# EAGLE library part ATSAM3U4EA (library GadgetFactory_v1)
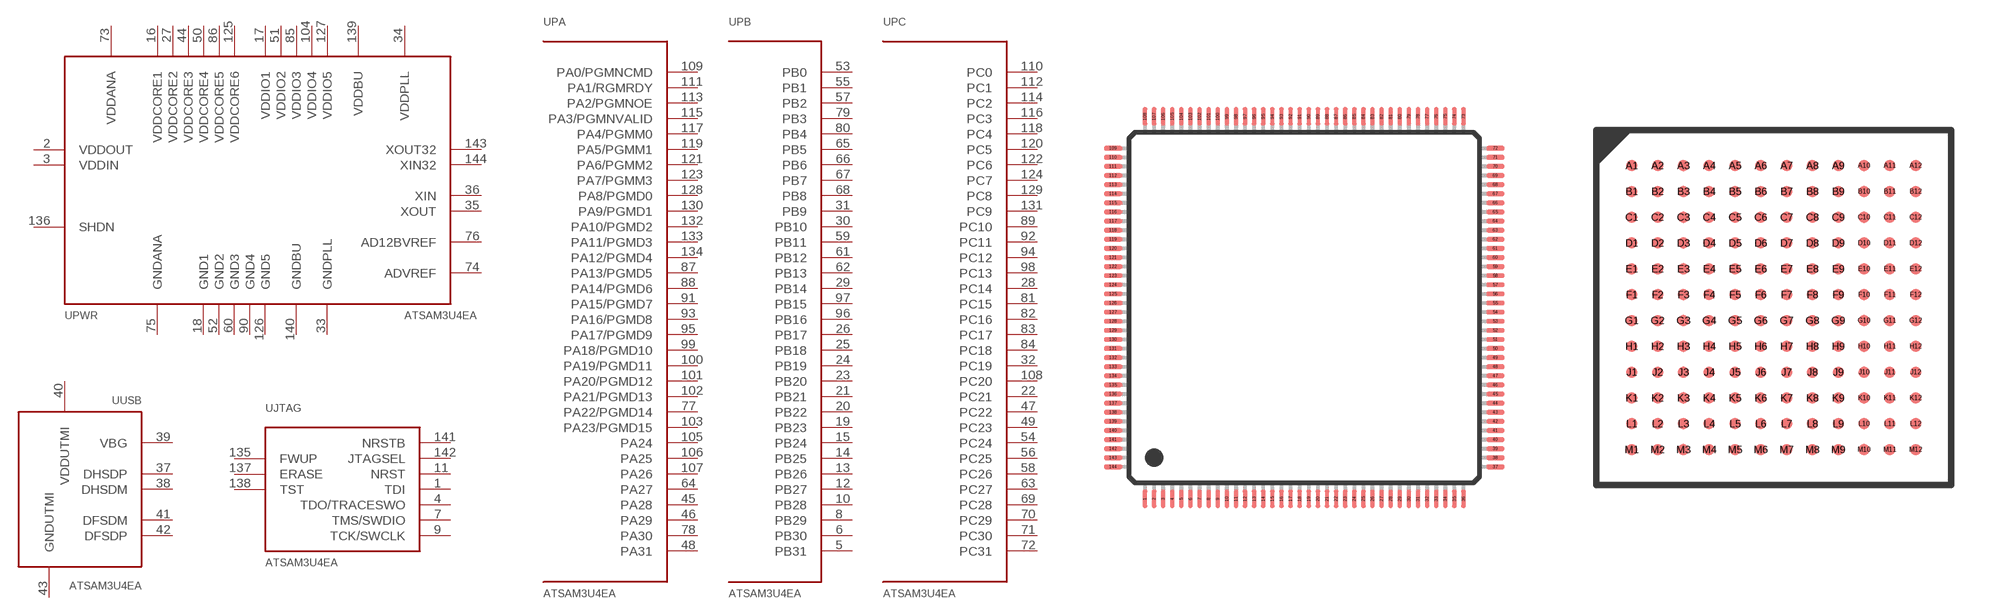
[diagram p52: symbol with the pads of LQFP144; footprints LQFP144, LFBGA144]

Designator prefix U; gates JTAG=ATSAM3U4EA_JTAG_PGM PA=ATSAM3U4EA_PA PB=ATSAM3U4EA_PB PC=ATSAM3U4EA_PC USB=ATSAM3U4EA_USB PWR=ATSAM3U4EA_PWR

## ATSAM3U4EACU  [LQFP144]
1  JTAG:TDI  in
2  PWR:VDDOUT  out
3  PWR:VDDIN  in
4  JTAG:TDO/TRACESWO  out
5  PB:PB31
6  PB:PB30
7  JTAG:TMS/SWDIO  in
8  PB:PB29
9  JTAG:TCK/SWCLK  in
10  PB:PB28
11  JTAG:NRST  in
12  PB:PB27
13  PB:PB26
14  PB:PB25
15  PB:PB24
16  PWR:VDDCORE1  pwr
17  PWR:VDDIO1  pwr
18  PWR:GND1  pas
19  PB:PB23
20  PB:PB22
21  PB:PB21
22  PC:PC21
23  PB:PB20
24  PB:PB19
25  PB:PB18
26  PB:PB17
27  PWR:VDDCORE2  pwr
28  PC:PC14
29  PB:PB14
30  PB:PB10
31  PB:PB9
32  PC:PC19
33  PWR:GNDPLL  pas
34  PWR:VDDPLL  pwr
35  PWR:XOUT  out
36  PWR:XIN  in
37  USB:DHSDP  pas
38  USB:DHSDM  pas
39  USB:VBG  in
40  USB:VDDUTMI  pwr
41  USB:DFSDM  pas
42  USB:DFSDP  pas
43  USB:GNDUTMI  pas
44  PWR:VDDCORE3  pwr
45  PA:PA28
46  PA:PA29
47  PC:PC22
48  PA:PA31
49  PC:PC23
50  PWR:VDDCORE4  pwr
51  PWR:VDDIO2  pwr
52  PWR:GND2  pas
53  PB:PB0
54  PC:PC24
55  PB:PB1
56  PC:PC25
57  PB:PB2
58  PC:PC26
59  PB:PB11
60  PWR:GND3  pas
61  PB:PB12
62  PB:PB13
63  PC:PC27
64  PA:PA27
65  PB:PB5
66  PB:PB6
67  PB:PB7
68  PB:PB8
69  PC:PC28
70  PC:PC29
71  PC:PC30
72  PC:PC31
73  PWR:VDDANA  pwr
74  PWR:ADVREF  in
75  PWR:GNDANA  pas
76  PWR:AD12BVREF  in
77  PA:PA22/PGMD14
78  PA:PA30
79  PB:PB3
80  PB:PB4
81  PC:PC15
82  PC:PC16
83  PC:PC17
84  PC:PC18
85  PWR:VDDIO3  pwr
86  PWR:VDDCORE5  pwr
87  PA:PA13/PGMD5
88  PA:PA14/PGMD6
89  PC:PC10
90  PWR:GND4  pas
91  PA:PA15/PGMD7
92  PC:PC11
93  PA:PA16/PGMD8
94  PC:PC12
95  PA:PA17/PGMD9
96  PB:PB16
97  PB:PB15
98  PC:PC13
99  PA:PA18/PGMD10
100  PA:PA19/PGMD11
101  PA:PA20/PGMD12
102  PA:PA21/PGMD13
103  PA:PA23/PGMD15
104  PWR:VDDIO4  pwr
105  PA:PA24
106  PA:PA25
107  PA:PA26
108  PC:PC20
109  PA:PA0/PGMNCMD
110  PC:PC0
111  PA:PA1/RGMRDY
112  PC:PC1
113  PA:PA2/PGMNOE
114  PC:PC2
115  PA:PA3/PGMNVALID
116  PC:PC3
117  PA:PA4/PGMM0
118  PC:PC4
119  PA:PA5/PGMM1
120  PC:PC5
121  PA:PA6/PGMM2
122  PC:PC6
123  PA:PA7/PGMM3
124  PC:PC7
125  PWR:VDDCORE6  pwr
126  PWR:GND5  pas
127  PWR:VDDIO5  pwr
128  PA:PA8/PGMD0
129  PC:PC8
130  PA:PA9/PGMD1
131  PC:PC9
132  PA:PA10/PGMD2
133  PA:PA11/PGMD3
134  PA:PA12/PGMD4
135  JTAG:FWUP  in
136  PWR:SHDN
137  JTAG:ERASE  in
138  JTAG:TST  in
139  PWR:VDDBU  pwr
140  PWR:GNDBU  pas
141  JTAG:NRSTB  in
142  JTAG:JTAGSEL  in
143  PWR:XOUT32  out
144  PWR:XIN32  in

## ATSAM3U4EAAU  [LFBGA144]
A1  USB:VBG  in
A2  USB:VDDUTMI  pwr
A3  PB:PB9
A4  PB:PB10
A5  PB:PB19
A6  PC:PC21
A7  PB:PB26
A8  JTAG:TCK/SWCLK  in
A9  PB:PB30
A10  JTAG:TDO/TRACESWO  out
A11  PWR:XIN32  in
A12  PWR:XOUT32  out
B1  PWR:VDDCORE1  pwr
B2  USB:GNDUTMI  pas
B3  PWR:XOUT  out
B4  PB:PB14
B5  PB:PB17
B6  PB:PB22
B7  PB:PB25
B8  PB:PB29
B9  PWR:VDDIN  in
B10  JTAG:JTAGSEL  in
B11  JTAG:ERASE  in
B12  PWR:SHDN
C1  USB:DFSDP  pas
C2  USB:DHSDP  pas
C3  PWR:XIN  in
C4  PWR:VDDPLL  pwr
C5  PB:PB18
C6  PB:PB20
C7  PB:PB27
C8  JTAG:TMS/SWDIO  in
C9  PWR:VDDOUT  out
C10  JTAG:NRSTB  in
C11  JTAG:TST  in
C12  JTAG:FWUP  in
D1  USB:DFSDM  pas
D2  USB:DHSDM  pas
D3  PWR:GNDPLL  pas
D4  PC:PC14
D5  PB:PB21
D6  PB:PB23
D7  PB:PB24
D8  PB:PB28
D9  JTAG:TDI  in
D10  PWR:VDDBU  pwr
D11  PA:PA10/PGMD2
D12  PA:PA11/PGMD3
E1  PC:PC22
E2  PA:PA28
E3  PC:PC19
E4  PWR:VDDCORE2  pwr
E5  PWR:GND1  pas
E6  PWR:VDDIO1  pwr
E7  PWR:GNDBU  pas
E8  JTAG:NRST  in
E9  PB:PB31
E10  PA:PA12/PGMD4
E11  PA:PA8/PGMD0
E12  PC:PC8
F1  PA:PA31
F2  PA:PA29
F3  PC:PC23
F4  PWR:VDDCORE3  pwr
F5  PWR:VDDIO2  pwr
F6  PWR:GND2  pas
F7  PWR:GND3  pas
F8  PWR:VDDIO3  pwr
F9  PC:PC9
F10  PA:PA9/PGMD1
F11  PWR:VDDCORE4  pwr
F12  PC:PC7
G1  PB:PB0
G2  PC:PC26
G3  PB:PB2
G4  PC:PC25
G5  PB:PB1
G6  PWR:GND4  pas
G7  PWR:GND5  pas
G8  PWR:VDDCORE5  pwr
G9  PC:PC4
G10  PA:PA6/PGMM2
G11  PA:PA7/PGMM3
G12  PC:PC6
H1  PC:PC24
H2  PC:PC27
H3  PA:PA27
H4  PB:PB12
H5  PB:PB11
H6  PWR:VDDIO5  pwr
H7  PWR:VDDCORE6  pwr
H8  PB:PB16
H9  PB:PB15
H10  PC:PC3
H11  PA:PA5/PGMM1
H12  PC:PC5
J1  PB:PB5
J2  PB:PB6
J3  PC:PC28
J4  PB:PB8
J5  PB:PB13
J6  PWR:VDDIO4  pwr
J7  PA:PA13/PGMD5
J8  PA:PA17/PGMD9
J9  PC:PC13
J10  PA:PA2/PGMNOE
J11  PA:PA3/PGMNVALID
J12  PA:PA4/PGMM0
K1  PB:PB7
K2  PC:PC31
K3  PC:PC29
K4  PB:PB3
K5  PB:PB4
K6  PA:PA14/PGMD6
K7  PA:PA16/PGMD8
K8  PA:PA18/PGMD10
K9  PC:PC20
K10  PA:PA1/RGMRDY
K11  PC:PC1
K12  PC:PC2
L1  PC:PC30
L2  PWR:ADVREF  in
L3  PWR:AD12BVREF  in
L4  PA:PA22/PGMD14
L5  PC:PC17
L6  PC:PC10
L7  PC:PC12
L8  PA:PA19/PGMD11
L9  PA:PA23/PGMD15
L10  PA:PA0/PGMNCMD
L11  PA:PA26
L12  PC:PC0
M1  PWR:VDDANA  pwr
M2  PWR:GNDANA  pas
M3  PA:PA30
M4  PC:PC15
M5  PC:PC16
M6  PC:PC18
M7  PA:PA15/PGMD7
M8  PC:PC11
M9  PA:PA20/PGMD12
M10  PA:PA21/PGMD13
M11  PA:PA24
M12  PA:PA25

## Footprint LQFP144 (pad centres in mm)
LQFP144
smd 0.25 x 1: 1 -8.75,-10.5; 2 -8.25,-10.5; 3 -7.75,-10.5; 4 -7.25,-10.5; 5 -6.75,-10.5; 6 -6.25,-10.5; 7 -5.75,-10.5; 8 -5.25,-10.5; 9 -4.75,-10.5; 10 -4.25,-10.5; 11 -3.75,-10.5; 12 -3.25,-10.5; 13 -2.75,-10.5; 14 -2.25,-10.5; 15 -1.75,-10.5; 16 -1.25,-10.5; 17 -0.75,-10.5; 18 -0.25,-10.5; 19 0.25,-10.5; 20 0.75,-10.5; 21 1.25,-10.5; 22 1.75,-10.5; 23 2.25,-10.5; 24 2.75,-10.5; 25 3.25,-10.5; 26 3.75,-10.5; 27 4.25,-10.5; 28 4.75,-10.5; 29 5.25,-10.5; 30 5.75,-10.5; 31 6.25,-10.5; 32 6.75,-10.5; 33 7.25,-10.5; 34 7.75,-10.5; 35 8.25,-10.5; 36 8.75,-10.5; 73 8.75,10.5; 74 8.25,10.5; 75 7.75,10.5; 76 7.25,10.5; 77 6.75,10.5; 78 6.25,10.5; 79 5.75,10.5; 80 5.25,10.5; 81 4.75,10.5; 82 4.25,10.5; 83 3.75,10.5; 84 3.25,10.5; 85 2.75,10.5; 86 2.25,10.5; 87 1.75,10.5; 88 1.25,10.5; 89 0.75,10.5; 90 0.25,10.5; 91 -0.25,10.5; 92 -0.75,10.5; 93 -1.25,10.5; 94 -1.75,10.5; 95 -2.25,10.5; 96 -2.75,10.5; 97 -3.25,10.5; 98 -3.75,10.5; 99 -4.25,10.5; 100 -4.75,10.5; 101 -5.25,10.5; 102 -5.75,10.5; 103 -6.25,10.5; 104 -6.75,10.5; 105 -7.25,10.5; 106 -7.75,10.5; 107 -8.25,10.5; 108 -8.75,10.5
smd 1 x 0.25: 37 10.5,-8.75; 38 10.5,-8.25; 39 10.5,-7.75; 40 10.5,-7.25; 41 10.5,-6.75; 42 10.5,-6.25; 43 10.5,-5.75; 44 10.5,-5.25; 45 10.5,-4.75; 46 10.5,-4.25; 47 10.5,-3.75; 48 10.5,-3.25; 49 10.5,-2.75; 50 10.5,-2.25; 51 10.5,-1.75; 52 10.5,-1.25; 53 10.5,-0.75; 54 10.5,-0.25; 55 10.5,0.25; 56 10.5,0.75; 57 10.5,1.25; 58 10.5,1.75; 59 10.5,2.25; 60 10.5,2.75; 61 10.5,3.25; 62 10.5,3.75; 63 10.5,4.25; 64 10.5,4.75; 65 10.5,5.25; 66 10.5,5.75; 67 10.5,6.25; 68 10.5,6.75; 69 10.5,7.25; 70 10.5,7.75; 71 10.5,8.25; 72 10.5,8.75; 109 -10.5,8.75; 110 -10.5,8.25; 111 -10.5,7.75; 112 -10.5,7.25; 113 -10.5,6.75; 114 -10.5,6.25; 115 -10.5,5.75; 116 -10.5,5.25; 117 -10.5,4.75; 118 -10.5,4.25; 119 -10.5,3.75; 120 -10.5,3.25; 121 -10.5,2.75; 122 -10.5,2.25; 123 -10.5,1.75; 124 -10.5,1.25; 125 -10.5,0.75; 126 -10.5,0.25; 127 -10.5,-0.25; 128 -10.5,-0.75; 129 -10.5,-1.25; 130 -10.5,-1.75; 131 -10.5,-2.25; 132 -10.5,-2.75; 133 -10.5,-3.25; 134 -10.5,-3.75; 135 -10.5,-4.25; 136 -10.5,-4.75; 137 -10.5,-5.25; 138 -10.5,-5.75; 139 -10.5,-6.25; 140 -10.5,-6.75; 141 -10.5,-7.25; 142 -10.5,-7.75; 143 -10.5,-8.25; 144 -10.5,-8.75

## Footprint LFBGA144 (pad centres in mm)
smd 0.35 x 0.35: A1 -4.4,4.4; A2 -3.6,4.4; A3 -2.8,4.4; A4 -2,4.4; A5 -1.2,4.4; A6 -0.4,4.4; A7 0.4,4.4; A8 1.2,4.4; A9 2,4.4; A10 2.8,4.4; A11 3.6,4.4; A12 4.4,4.4; B1 -4.4,3.6; B2 -3.6,3.6; B3 -2.8,3.6; B4 -2,3.6; B5 -1.2,3.6; B6 -0.4,3.6; B7 0.4,3.6; B8 1.2,3.6; B9 2,3.6; B10 2.8,3.6; B11 3.6,3.6; B12 4.4,3.6; C1 -4.4,2.8; C2 -3.6,2.8; C3 -2.8,2.8; C4 -2,2.8; C5 -1.2,2.8; C6 -0.4,2.8; C7 0.4,2.8; C8 1.2,2.8; C9 2,2.8; C10 2.8,2.8; C11 3.6,2.8; C12 4.4,2.8; D1 -4.4,2; D2 -3.6,2; D3 -2.8,2; D4 -2,2; D5 -1.2,2; D6 -0.4,2; D7 0.4,2; D8 1.2,2; D9 2,2; D10 2.8,2; D11 3.6,2; D12 4.4,2; E1 -4.4,1.2; E2 -3.6,1.2; E3 -2.8,1.2; E4 -2,1.2; E5 -1.2,1.2; E6 -0.4,1.2; E7 0.4,1.2; E8 1.2,1.2; E9 2,1.2; E10 2.8,1.2; E11 3.6,1.2; E12 4.4,1.2; F1 -4.4,0.4; F2 -3.6,0.4; F3 -2.8,0.4; F4 -2,0.4; F5 -1.2,0.4; F6 -0.4,0.4; F7 0.4,0.4; F8 1.2,0.4; F9 2,0.4; F10 2.8,0.4; F11 3.6,0.4; F12 4.4,0.4; G1 -4.4,-0.4; G2 -3.6,-0.4; G3 -2.8,-0.4; G4 -2,-0.4; G5 -1.2,-0.4; G6 -0.4,-0.4; G7 0.4,-0.4; G8 1.2,-0.4; G9 2,-0.4; G10 2.8,-0.4; G11 3.6,-0.4; G12 4.4,-0.4; H1 -4.4,-1.2; H2 -3.6,-1.2; H3 -2.8,-1.2; H4 -2,-1.2; H5 -1.2,-1.2; H6 -0.4,-1.2; H7 0.4,-1.2; H8 1.2,-1.2; H9 2,-1.2; H10 2.8,-1.2; H11 3.6,-1.2; H12 4.4,-1.2; J1 -4.4,-2; J2 -3.6,-2; J3 -2.8,-2; J4 -2,-2; J5 -1.2,-2; J6 -0.4,-2; J7 0.4,-2; J8 1.2,-2; J9 2,-2; J10 2.8,-2; J11 3.6,-2; J12 4.4,-2; K1 -4.4,-2.8; K2 -3.6,-2.8; K3 -2.8,-2.8; K4 -2,-2.8; K5 -1.2,-2.8; K6 -0.4,-2.8; K7 0.4,-2.8; K8 1.2,-2.8; K9 2,-2.8; K10 2.8,-2.8; K11 3.6,-2.8; K12 4.4,-2.8; L1 -4.4,-3.6; L2 -3.6,-3.6; L3 -2.8,-3.6; L4 -2,-3.6; L5 -1.2,-3.6; L6 -0.4,-3.6; L7 0.4,-3.6; L8 1.2,-3.6; L9 2,-3.6; L10 2.8,-3.6; L11 3.6,-3.6; L12 4.4,-3.6; M1 -4.4,-4.4; M2 -3.6,-4.4; M3 -2.8,-4.4; M4 -2,-4.4; M5 -1.2,-4.4; M6 -0.4,-4.4; M7 0.4,-4.4; M8 1.2,-4.4; M9 2,-4.4; M10 2.8,-4.4; M11 3.6,-4.4; M12 4.4,-4.4